# EAGLE library part LMG1210 (library MDT_IC)
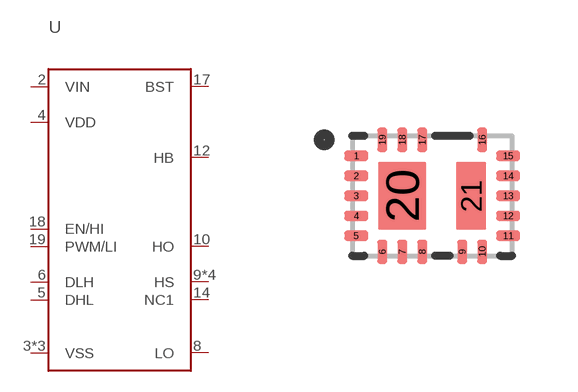
[diagram p1: symbol with the pads of WQFN-19; footprint WQFN-19]

Designator prefix U

## LMG1210WQFN-19  [WQFN-19]
2  VIN  pwr
3  VSS  pwr
4  VDD  pwr
5  DHL  pas
6  DLH  pas
7  VSS  pwr
8  LO  out
9  HS  pas
10  HO  out
12  HB  pas
13  HS  pas
14  NC1  pas
16  HS  pas
17  BST  pas
18  EN/HI  in
19  PWM/LI  in
20  VSS  pwr
21  HS  pas

## Footprint WQFN-19 (pad centres in mm)
smd 0.6 x 0.25: 1 -1.9,1; 2 -1.9,0.5; 3 -1.9,0; 4 -1.9,-0.5; 5 -1.9,-1; 11 1.9,-1; 12 1.9,-0.5; 13 1.9,0; 14 1.9,0.5; 15 1.9,1
smd 0.25 x 0.6: 6 -1.25,-1.4; 7 -0.75,-1.4; 8 -0.25,-1.4; 9 0.75,-1.4; 10 1.25,-1.4; 16 1.25,1.4; 17 -0.25,1.4; 18 -0.75,1.4; 19 -1.25,1.4
smd 1.2 x 1.7: 20 -0.75,0
smd 0.75 x 1.7: 21 0.975,0